# EAGLE library part 6.115-LOGIC-BLOCK (library custom)
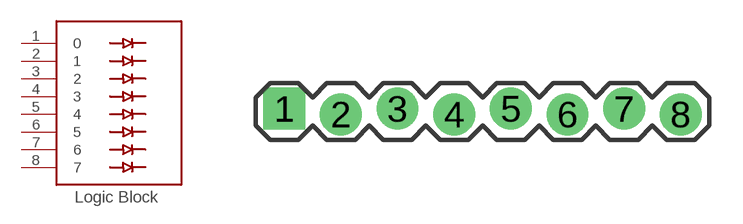
[diagram p12: symbol with the pads of 1X08_LOCK; footprint 1X08_LOCK]

Designator prefix -

## 6.115-LOGIC-BLOCKMO16-LOCK  [1X08_LOCK]
1  0
2  1
3  2
4  3
5  4
6  5
7  6
8  7

## Footprint 1X08_LOCK (pad centres in mm)
drill 1.016 pad 1.88 square: 1 0,0.127
drill 1.016 pad 1.88 round: 2 2.54,-0.127; 3 5.08,0.127; 4 7.62,-0.127; 5 10.16,0.127; 6 12.7,-0.127; 7 15.24,0.127; 8 17.78,-0.127